# Altium schematic symbol library Switches_right_angled.SchLib: 4 symbols
Pins are listed as number, name and electrical type; pins without a type are passive.

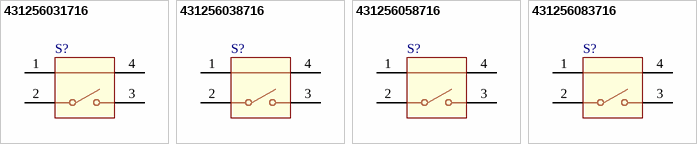
[diagram p0: symbols 431256031716 to 431256083716]

## 431256031716
designator S?
WS-TATU 6x6mm right angle Tact Switch with ground terminal, THT version; Part Number: 431256031716; Vendor: Wurth Elektronik; Família: Switches
footprint 4312560317x6
pins: 1 GND, 2, 3, 4 GND

## 431256038716
designator S?
WS-TATU 6x6mm right angle Tact Switch with ground terminal, THT version; Part Number: 431256038716; Vendor: Wurth Elektronik; Família: Switches
footprint 4312560387x6
pins: 1 GND, 2, 3, 4 GND

## 431256058716
designator S?
WS-TATU 6x6mm right angle Tact Switch with ground terminal, THT version; Part Number: 431256058716; Vendor: Wurth Elektronik; Família: Switches
footprint 4312560587x6
pins: 1 GND, 2, 3, 4 GND

## 431256083716
designator S?
WS-TATU 6x6mm right angle Tact Switch with ground terminal, THT version; Part Number: 431256083716; Vendor: Wurth Elektronik; Família: Switches
footprint 4312560837x6
pins: 1 GND, 2, 3, 4 GND